# Altium footprint library LABLIB.PcbLib: 244 footprints (part 17 of 17)
Each footprint in its own frame and in the unit in brackets; x right, y up, seen from the top. Pads: shape width x height; smd on the part's side, far side on the other; paste and mask are expansions set on the pad; w line width, h text height; cw(c..) or ccw(c..) is an arc to the next point about the centre after c.
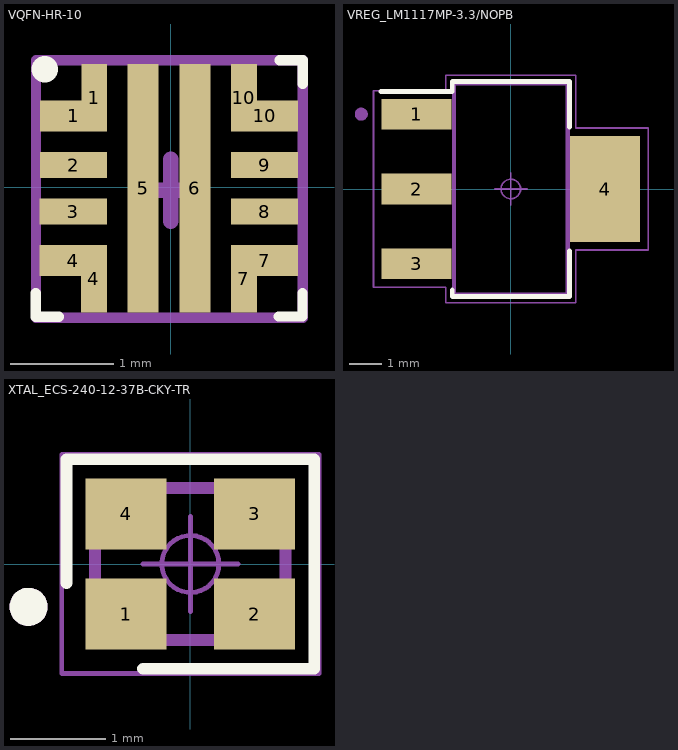
[diagram p16: the footprints below, top view; thin cyan lines are the x and y axes]

## VQFN-HR-10 [mm]
pads (14):
  rect 0.65x0.3 smd: 1(-0.938,0.692) 4(-0.941,-0.708) 7(0.909,-0.708) 10(0.909,0.692)
  rect 0.25x0.65 smd: 1(-0.738,0.867) 4(-0.741,-0.883) 7(0.709,-0.883) 10(0.709,0.867)
  rect 0.65x0.25 smd: 2(-0.938,0.216) 3(-0.941,-0.233) 8(0.909,-0.233) 9(0.909,0.216)
  rect 0.3x2.4 smd: 5(-0.265,-0.008) 6(0.235,-0.007)
Top Overlay:
  lines w0.1: -1.304,-1.022 -1.304,-1.25 -1.078,-1.25 ; 1.047,-1.247 1.275,-1.247 1.275,-1.021 ; 1.053,1.228 1.279,1.228 1.279,1
  lines w0.254: -1.216,1.143 -1.213,1.143
Top 3D Body:
  lines w0.1: -1.301,-1.261 1.278,-1.261 1.278,1.231 -1.301,1.231 -1.301,-1.261
  lines w0.15: -0.298,-0.027 0.302,-0.027 ; 0.002,-0.327 0.002,0.273
3D body "TPS259470ARPWR.step": height 1, standoff 0, extent -1.028,-1.005 0.972,0.995

## VREG_LM1117MP-3.3/NOPB [mm]
height 1.8
pads (4):
  rect 2.15x0.95 smd: 1(-2.9,2.3) 2(-2.9,0) 3(-2.9,-2.3)
  rect 2.15x3.25 smd: 4(2.9,0)
Top Overlay:
  lines w0.15: -4,3 -1.8,3 -1.8,3.3 1.8,3.3 1.8,1.9 ; -1.8,-3.1 -1.8,-3.3 -1.7,-3.3 1.8,-3.3 1.8,-1.9
Top Assembly:
  lines w0.127: -1.75,-3.25 -1.75,3.25 1.75,3.25 1.75,-3.25 -1.75,-3.25
  text "'.Designator'" at -3.952,-0.622 h1.5
Top Component Center:
  circle w0.05: c0,0 r0.3
  lines w0.05: -0.5,0 0.5,0 ; 0,-0.5 0,0.5
Mechanical 13:
  circle w0.2: c-4.6,2.3 r0.1
Mechanical 15:
  lines w0.05: -4.225,-3.025 -2,-3.025 -2,-3.5 2,-3.5 2,-1.875 4.225,-1.875 4.225,1.875 2,1.875 2,3.5 -2,3.5 -2,3.025 -4.225,3.025 -4.225,-3.025
3D body "step_temp.STEP": height 1.8, standoff 0, extent -3.499,-3.25 3.499,3.25

## XTAL_ECS-240-12-37B-CKY-TR [mm]
pads (4):
  rect 0.85x0.75 smd mask+0.05: 1(-0.675,-0.525) 2(0.675,-0.525) 3(0.675,0.525) 4(-0.675,0.525)
Top Overlay:
  circle w0.2: c-1.7,-0.45 r0.1
  lines w0.125: -1.3,-0.2 -1.3,0.5 -1.3,1.1 1.3,1.1 1.3,-1.1 -0.5,-1.1
Top Assembly:
  lines w0.125: -1,-0.8 1,-0.8 1,0.8 -1,0.8 -1,-0.8
  text "'.Designator'" at -3.952,-0.622 h1.5
Top Component Center:
  circle w0.05: c0,0 r0.3
  lines w0.05: -0.5,0 0.5,0 ; 0,-0.5 0,0.5
Mechanical 13:
  circle w0.2: c-1.7,-0.45 r0.1
  lines w0.127: -1,-0.8 1,-0.8 1,0.8 -1,0.8 -1,-0.8
Mechanical 15:
  lines w0.05: -1.35,-1.15 1.35,-1.15 1.35,1.15 -1.35,1.15 -1.35,-1.15
3D body "step_temp.STEP": height 0.5, standoff 0, extent -1,-0.8 1,0.8